# EAGLE library part PIC16F18325 (library innove-microcontrollers)
Microchip PIC16F18325 PIC16F18325 microcontrollers feature Analog, Core Independent Peripherals and communication peripherals, combined with Extreme Low Power (XLP) for wide range of general purpose and low power applications. The Peripheral Pin Select (PPS) functionality enables pin mapping when using the digital peripherals (CLC, CWG, CCP, PWM and communications) to add flexibility to the application design. Additional Features: Enhanced Mid-range Core with 49 Instruction, 16 Stack Levels Flash Program Memory with self read/write capability 256B EEPROM IDLE and DOZE low power modes Peripheral Module Disable (PMD) Peripheral Pin Select (PPS) 2x 10-bit PWMs 4x Capture, Compare, PWM (CCP) 2x Complementary Waveform Generator (CWG) Module Numerically Controlled Oscillator (NCO) 4x Configurable Logic Controller (CLC) 15 Channel 10-bit ADC with Voltage Reference 5-bit Digital to Analog Converter (DAC) 2x Comparator 2x SPI/I2C Enhanced Universal Synchronous Asynchronous Receiver Transmitter (EUSART) 4x 8-bit Timers (TMR0/TMR2) 3x 16-bit Timer (TMR1) Extended Watchdog Timer (WDT) Enhanced Power-On/Off-Reset Low-Power Brown-Out Reset (LPBOR) Programmable Brown-Out Reset (BOR) In Circuit Serial Programming (ICSP) PIC16LF18325 (1.8V – 3.6V) PIC16F18325 (2.3V – 5.5V) Source: https://www.microchip.com/wwwproducts/en/PIC16F18325
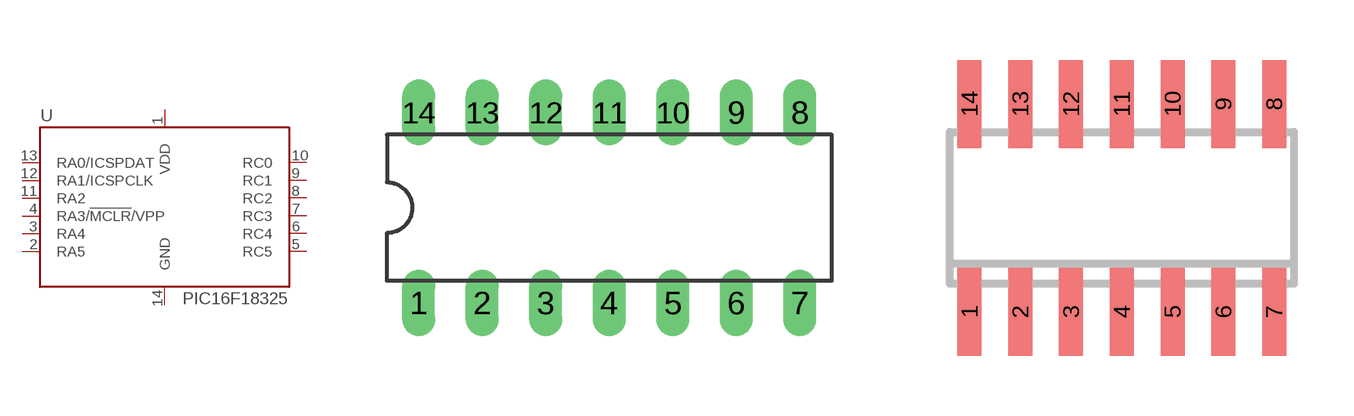
[diagram p0: symbol with the pads of DIL14; footprints DIL14, SO-14]

Designator prefix U

## PIC16F18325-I/P  [DIL14]
1  VDD  pwr
2  RA5
3  RA4
4  RA3/!MCLR!/VPP  in
5  RC5
6  RC4
7  RC3
8  RC2
9  RC1
10  RC0
11  RA2
12  RA1/ICSPCLK
13  RA0/ICSPDAT
14  GND  pwr

## PIC16F18325-I/SL  [SO-14]
Pads as for DIL14

## PIC16F18325-I/ST  [TSSOP14]
Pads as for DIL14

## Footprint DIL14 (pad centres in mm)
Dual In Line Package
drill 0.813 long: 1 -7.62,-3.81; 2 -5.08,-3.81; 3 -2.54,-3.81; 4 0,-3.81; 5 2.54,-3.81; 6 5.08,-3.81; 7 7.62,-3.81; 8 7.62,3.81; 9 5.08,3.81; 10 2.54,3.81; 11 0,3.81; 12 -2.54,3.81; 13 -5.08,3.81; 14 -7.62,3.81

## Footprint SO-14 (pad centres in mm)
Small Outline Narrow Plastic Gull Wing 150-mil body, package type SL
smd 0.6 x 2.2: 1 -3.81,-2.6; 2 -2.54,-2.6; 3 -1.27,-2.6; 4 0,-2.6; 5 1.27,-2.6; 6 2.54,-2.6; 7 3.81,-2.6; 8 3.81,2.6; 9 2.54,2.6; 10 1.27,2.6; 11 0,2.6; 12 -1.27,2.6; 13 -2.54,2.6; 14 -3.81,2.6

## Footprint TSSOP14 (pad centres in mm)
14-Lead Plastic Thin Shrink Small Outline (ST) - 4.4 mm Body TSSOP Source: http://ww1.microchip.com/downloads/en/DeviceDoc/40039E.pdf
smd 0.35 x 1: 1 -1.95,-2.825; 2 -1.3,-2.825; 3 -0.65,-2.825; 4 0,-2.825; 5 0.65,-2.825; 6 1.3,-2.825; 7 1.95,-2.825; 8 1.95,2.825; 9 1.3,2.825; 10 0.65,2.825; 11 0,2.825; 12 -0.65,2.825; 13 -1.3,2.825; 14 -1.95,2.825